# EAGLE library part LPS22HB (library (custom)-new-components)
MEMS nano pressure sensor: 260-1260 hPa absolute digital output barometer
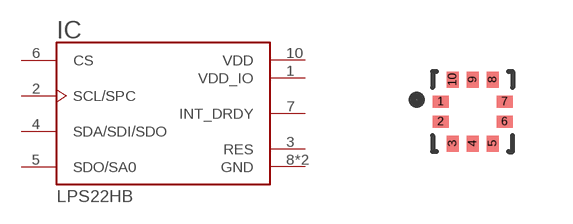
[diagram p7: symbol with the pads of LGA10R50P2X3_200X200X80; footprint LGA10R50P2X3_200X200X80]

Designator prefix IC

## LPS22HB (AVAILABILITY: Unavailable; DESCRIPTION: MEMS nano pressure sensor: 260-1260 hPa absolute digital output barometer; MF: STMicroelectronics; MP: LPS22HB; PACKAGE: None; PRICE: None)  [LGA10R50P2X3_200X200X80]
1  VDD_IO  pwr
2  SCL/SPC  in
3  RES  pwr
4  SDA/SDI/SDO
5  SDO/SA0
6  CS  in
7  INT_DRDY  out
8  GND  pwr
9  GND  pwr
10  VDD  pwr

## Footprint LGA10R50P2X3_200X200X80 (pad centres in mm)
smd 0.4 x 0.3: 1 -0.8,0.25; 2 -0.8,-0.25; 6 0.8,-0.25; 7 0.8,0.25
smd 0.3 x 0.4: 3 -0.5,-0.8; 4 0,-0.8; 5 0.5,-0.8; 8 0.5,0.8; 9 0,0.8; 10 -0.5,0.8